# EAGLE library part ICOTECH_DAUGHTER (library Icotech_Eagle_Library)
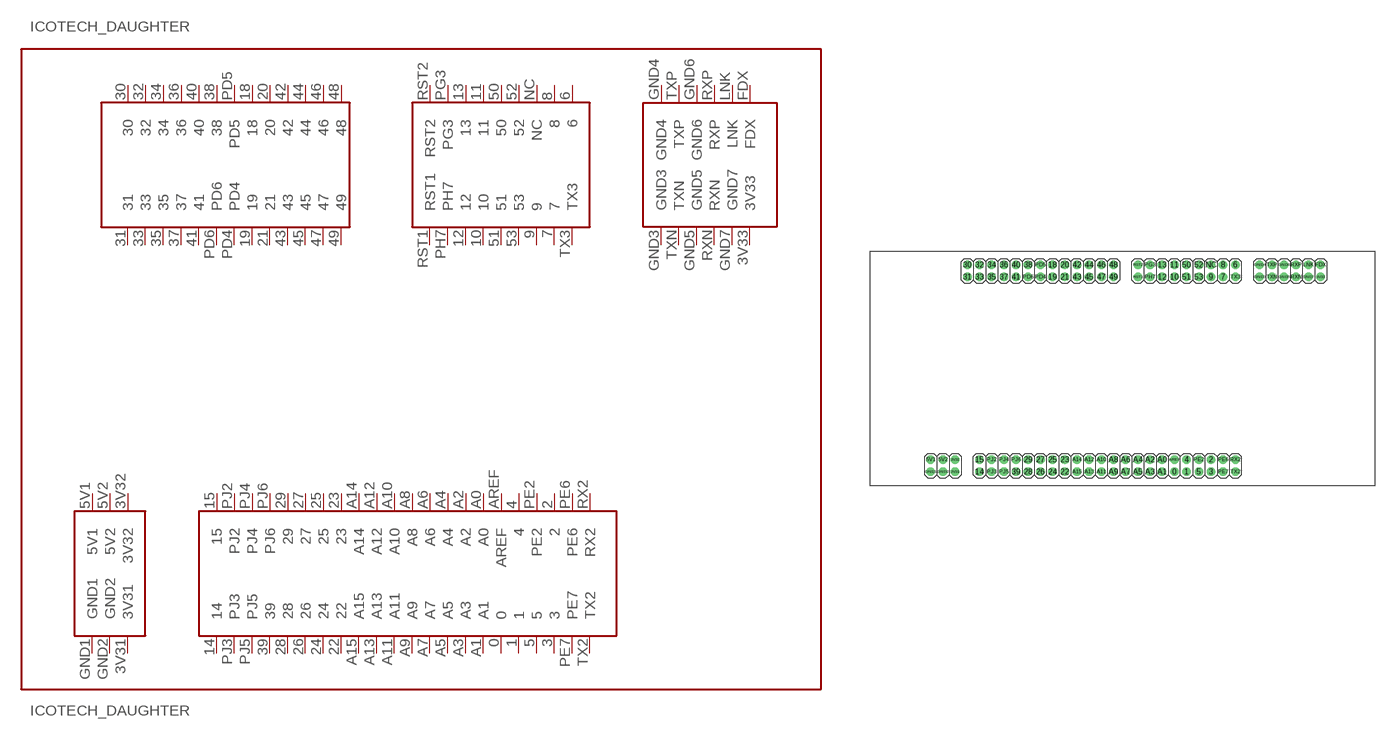
[diagram p0: symbol with the pads of ICOTECH_DAUGHTER; footprint ICOTECH_DAUGHTER]

Designator prefix -

## ICOTECH_DAUGHTER  [ICOTECH_DAUGHTER]
0  0
1  1
2  2
3  3
3V31  3V31
3V32  3V32
3V33  3V33
4  4
5  5
5V1  5V1
5V2  5V2
6  6
7  7
8  8
9  9
10  10
11  11
12  12
13  13
14  14
15  15
18  18
19  19
20  20
21  21
22  22
23  23
24  24
25  25
26  26
27  27
28  28
29  29
30  30
31  31
32  32
33  33
34  34
35  35
36  36
37  37
38  38
39  39
40  40
41  41
42  42
43  43
44  44
45  45
46  46
47  47
48  48
49  49
50  50
51  51
52  52
53  53
A0  A0
A1  A1
A2  A2
A3  A3
A4  A4
A5  A5
A6  A6
A7  A7
A8  A8
A9  A9
A10  A10
A11  A11
A12  A12
A13  A13
A14  A14
A15  A15
AREF  AREF
FDX  FDX
GND1  GND1
GND2  GND2
GND3  GND3
GND4  GND4
GND5  GND5
GND6  GND6
GND7  GND7
LNK  LNK
NC  NC
PD4  PD4
PD5  PD5
PD6  PD6
PE2  PE2
PE6  PE6
PE7  PE7
PG3  PG3
PH7  PH7
PJ2  PJ2
PJ3  PJ3
PJ4  PJ4
PJ5  PJ5
PJ6  PJ6
RST1  RST1
RST2  RST2
RX2  RX2
RXN  RXN
RXP  RXP
TX2  TX2
TX3  TX3
TXN  TXN
TXP  TXP

## Footprint ICOTECH_DAUGHTER (pad centres in mm)
drill 0.94 pad 1.778: 0 63.5,2.819; 1 66.04,2.819; 2 71.12,5.359; 3 71.12,2.819; 3V31 17.78,2.819; 3V32 17.78,5.359; 3V33 93.98,43.459; 4 66.04,5.359; 5 68.58,2.819; 5V1 12.7,5.359; 5V2 15.24,5.359; 6 76.2,45.999; 7 73.66,43.459; 8 73.66,45.999; 9 71.12,43.459; 10 63.5,43.459; 11 63.5,45.999; 12 60.96,43.459; 13 60.96,45.999; 14 22.86,2.819; 15 22.86,5.359; 18 38.1,45.999; 19 38.1,43.459; 20 40.64,45.999; 21 40.64,43.459; 22 40.64,2.819; 23 40.64,5.359; 24 38.1,2.819; 25 38.1,5.359; 26 35.56,2.819; 27 35.56,5.359; 28 33.02,2.819; 29 33.02,5.359; 30 20.32,45.999; 31 20.32,43.459; 32 22.86,45.999; 33 22.86,43.459; 34 25.4,45.999; 35 25.4,43.459; 36 27.94,45.999; 37 27.94,43.459; 38 33.02,45.999; 39 30.48,2.819; 40 30.48,45.999; 41 30.48,43.459; 42 43.18,45.999; 43 43.18,43.459; 44 45.72,45.999; 45 45.72,43.459; 46 48.26,45.999; 47 48.26,43.459; 48 50.8,45.999; 49 50.8,43.459; 50 66.04,45.999; 51 66.04,43.459; 52 68.58,45.999; 53 68.58,43.459; A0 60.96,5.359; A1 60.96,2.819; A2 58.42,5.359; A3 58.42,2.819; A4 55.88,5.359; A5 55.88,2.819; A6 53.34,5.359; A7 53.34,2.819; A8 50.8,5.359; A9 50.8,2.819; A10 48.26,5.359; A11 48.26,2.819; A12 45.72,5.359; A13 45.72,2.819; A14 43.18,5.359; A15 43.18,2.819; AREF 63.5,5.359; FDX 93.98,45.999; GND1 12.7,2.819; GND2 15.24,2.819; GND3 81.28,43.459; GND4 81.28,45.999; GND5 86.36,43.459; GND6 86.36,45.999; GND7 91.44,43.459; LNK 91.44,45.999; NC 71.12,45.999; PD4 35.56,43.459; PD5 35.56,45.999; PD6 33.02,43.459; PE2 68.58,5.359; PE6 73.66,5.359; PE7 73.66,2.819; PG3 58.42,45.999; PH7 58.42,43.459; PJ2 25.4,5.359; PJ3 25.4,2.819; PJ4 27.94,5.359; PJ5 27.94,2.819; PJ6 30.48,5.359; RST1 55.88,43.459; RST2 55.88,45.999; RX2 76.2,5.359; RXN 88.9,43.459; RXP 88.9,45.999; TX2 76.2,2.819; TX3 76.2,43.459; TXN 83.82,43.459; TXP 83.82,45.999